# EAGLE library part SENSOR_S9706 (library akita)
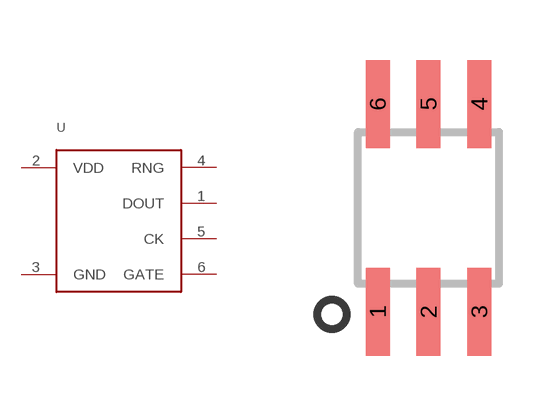
[diagram p14: symbol with the pads of SOIC6; footprint SOIC6]

Designator prefix U

## SENSOR_S9706  [SOIC6]
1  DOUT  out
2  VDD  sup
3  GND  oc
4  RNG  in
5  CK  in
6  GATE

## Footprint SOIC6 (pad centres in mm)
smd 0.6 x 2.2: 1 -1.905,-2.6; 2 -0.635,-2.6; 3 0.635,-2.6; 4 0.635,2.6; 5 -0.635,2.6; 6 -1.905,2.6